# EAGLE library part AD7568 (library analog-devices-3)
LC2MOS Octal 12-Bit DAC Source: http://www.analog.com/UploadedFiles/Data_Sheets/843987253ad7568.pdf
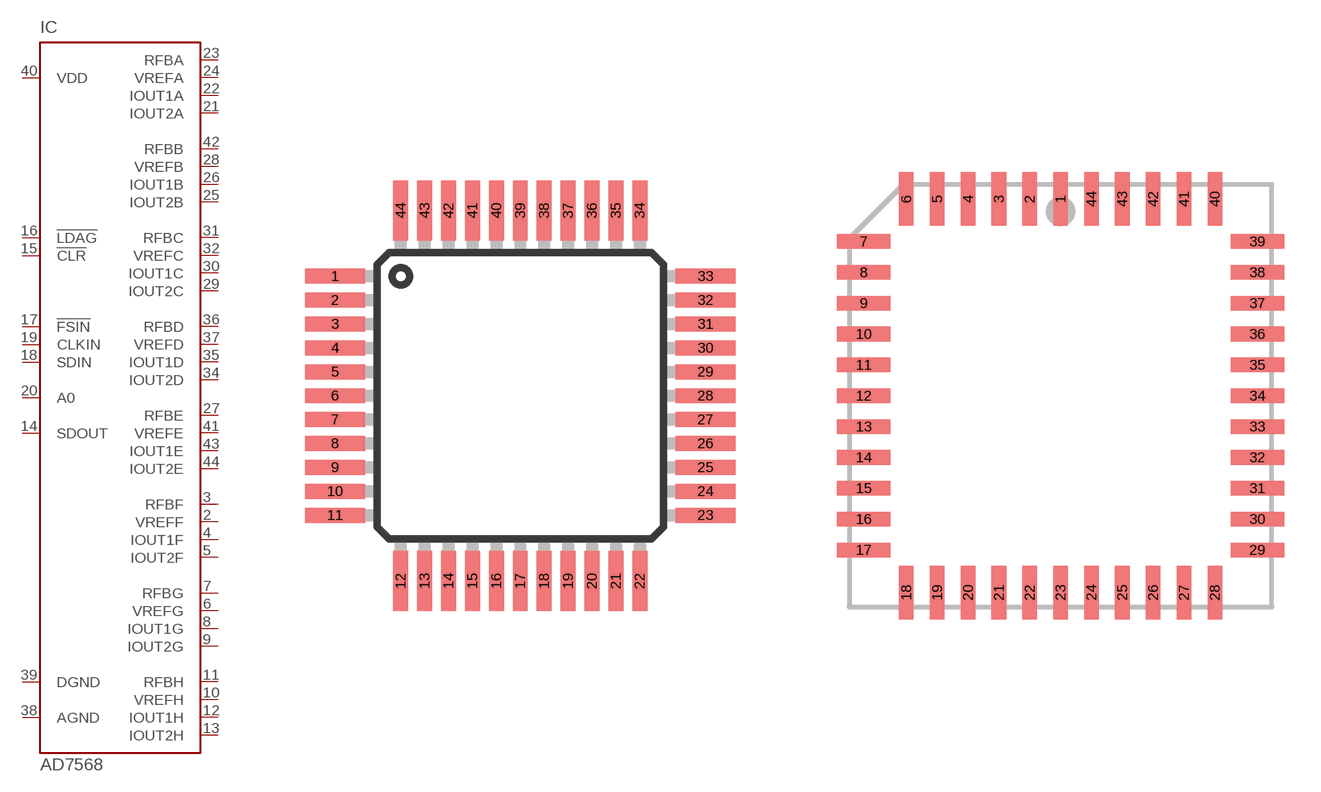
[diagram p26: symbol with the pads of PQFP44; footprints PQFP44, PLCC44]

Designator prefix IC

## AD7568S  [PQFP44]
2  VREFF  pas
3  RFBF  pas
4  IOUT1F  pas
5  IOUT2F  pas
6  VREFG  pas
7  RFBG  pas
8  IOUT1G  pas
9  IOUT2G  pas
10  VREFH  pas
11  RFBH  pas
12  IOUT1H  pas
13  IOUT2H  pas
14  SDOUT  in
15  !CLR  in
16  !LDAG  in
17  !FSIN  in
18  SDIN  in
19  CLKIN  in
20  A0  in
21  IOUT2A  pas
22  IOUT1A  pas
23  RFBA  pas
24  VREFA  pas
25  IOUT2B  pas
26  IOUT1B  pas
27  RFBE  pas
28  VREFB  pas
29  IOUT2C  pas
30  IOUT1C  pas
31  RFBC  pas
32  VREFC  pas
34  IOUT2D  pas
35  IOUT1D  pas
36  RFBD  pas
37  VREFD  pas
38  AGND  pwr
39  DGND  pwr
40  VDD  pwr
41  VREFE  pas
42  RFBB  pas
43  IOUT1E  pas
44  IOUT2E  pas

## AD7568P  [PLCC44]
1  DGND  pwr
2  VDD  pwr
3  VREFE  pas
4  RFBE  pas
5  IOUT1E  pas
6  IOUT2E  pas
8  VREFF  pas
9  RFBF  pas
10  IOUT1F  pas
11  IOUT2F  pas
12  VREFG  pas
13  RFBG  pas
14  IOUT1G  pas
15  IOUT2G  pas
16  VREFH  pas
17  RFBH  pas
18  IOUT1H  pas
19  IOUT2H  pas
20  SDOUT  in
21  !CLR  in
22  !LDAG  in
23  !FSIN  in
24  SDIN  in
25  CLKIN  in
26  A0  in
27  IOUT2A  pas
28  IOUT1A  pas
29  RFBA  pas
30  VREFA  pas
31  IOUT2B  pas
32  IOUT1B  pas
33  RFBB  pas
34  VREFB  pas
35  IOUT2C  pas
36  IOUT1C  pas
37  RFBC  pas
38  VREFC  pas
40  IOUT2D  pas
41  IOUT1D  pas
42  RFBD  pas
43  VREFD  pas
44  AGND  pwr

## Footprint PQFP44 (pad centres in mm)
Plastic Quad Flat Package
smd 2 x 0.5: 1 -6.2,4; 2 -6.2,3.2; 3 -6.2,2.4; 4 -6.2,1.6; 5 -6.2,0.8; 6 -6.2,0; 7 -6.2,-0.8; 8 -6.2,-1.6; 9 -6.2,-2.4; 10 -6.2,-3.2; 11 -6.2,-4; 23 6.2,-4; 24 6.2,-3.2; 25 6.2,-2.4; 26 6.2,-1.6; 27 6.2,-0.8; 28 6.2,0; 29 6.2,0.8; 30 6.2,1.6; 31 6.2,2.4; 32 6.2,3.2; 33 6.2,4
smd 0.5 x 2: 12 -4,-6.2; 13 -3.2,-6.2; 14 -2.4,-6.2; 15 -1.6,-6.2; 16 -0.8,-6.2; 17 0,-6.2; 18 0.8,-6.2; 19 1.6,-6.2; 20 2.4,-6.2; 21 3.2,-6.2; 22 4,-6.2; 34 4,6.2; 35 3.2,6.2; 36 2.4,6.2; 37 1.6,6.2; 38 0.8,6.2; 39 0,6.2; 40 -0.8,6.2; 41 -1.6,6.2; 42 -2.4,6.2; 43 -3.2,6.2; 44 -4,6.2

## Footprint PLCC44 (pad centres in mm)
PLASTIC LEADED CHIP CARRIER square
smd 0.6 x 2.2: 1 0,8.1; 2 -1.27,8.1; 3 -2.54,8.1; 4 -3.81,8.1; 5 -5.08,8.1; 6 -6.35,8.1; 18 -6.35,-8.1; 19 -5.08,-8.1; 20 -3.81,-8.1; 21 -2.54,-8.1; 22 -1.27,-8.1; 23 0,-8.1; 24 1.27,-8.1; 25 2.54,-8.1; 26 3.81,-8.1; 27 5.08,-8.1; 28 6.35,-8.1; 40 6.35,8.1; 41 5.08,8.1; 42 3.81,8.1; 43 2.54,8.1; 44 1.27,8.1
smd 2.2 x 0.6: 7 -8.1,6.35; 8 -8.1,5.08; 9 -8.1,3.81; 10 -8.1,2.54; 11 -8.1,1.27; 12 -8.1,0; 13 -8.1,-1.27; 14 -8.1,-2.54; 15 -8.1,-3.81; 16 -8.1,-5.08; 17 -8.1,-6.35; 29 8.1,-6.35; 30 8.1,-5.08; 31 8.1,-3.81; 32 8.1,-2.54; 33 8.1,-1.27; 34 8.1,0; 35 8.1,1.27; 36 8.1,2.54; 37 8.1,3.81; 38 8.1,5.08; 39 8.1,6.35